# Altium footprint library MZ7XBFUN20171130.PcbLib: 37 footprints (part 2 of 3)
Each footprint in its own frame and in the unit in brackets; x right, y up, seen from the top. Pads: shape width x height; smd on the part's side, far side on the other; paste and mask are expansions set on the pad; w line width, h text height; cw(c..) or ccw(c..) is an arc to the next point about the centre after c.
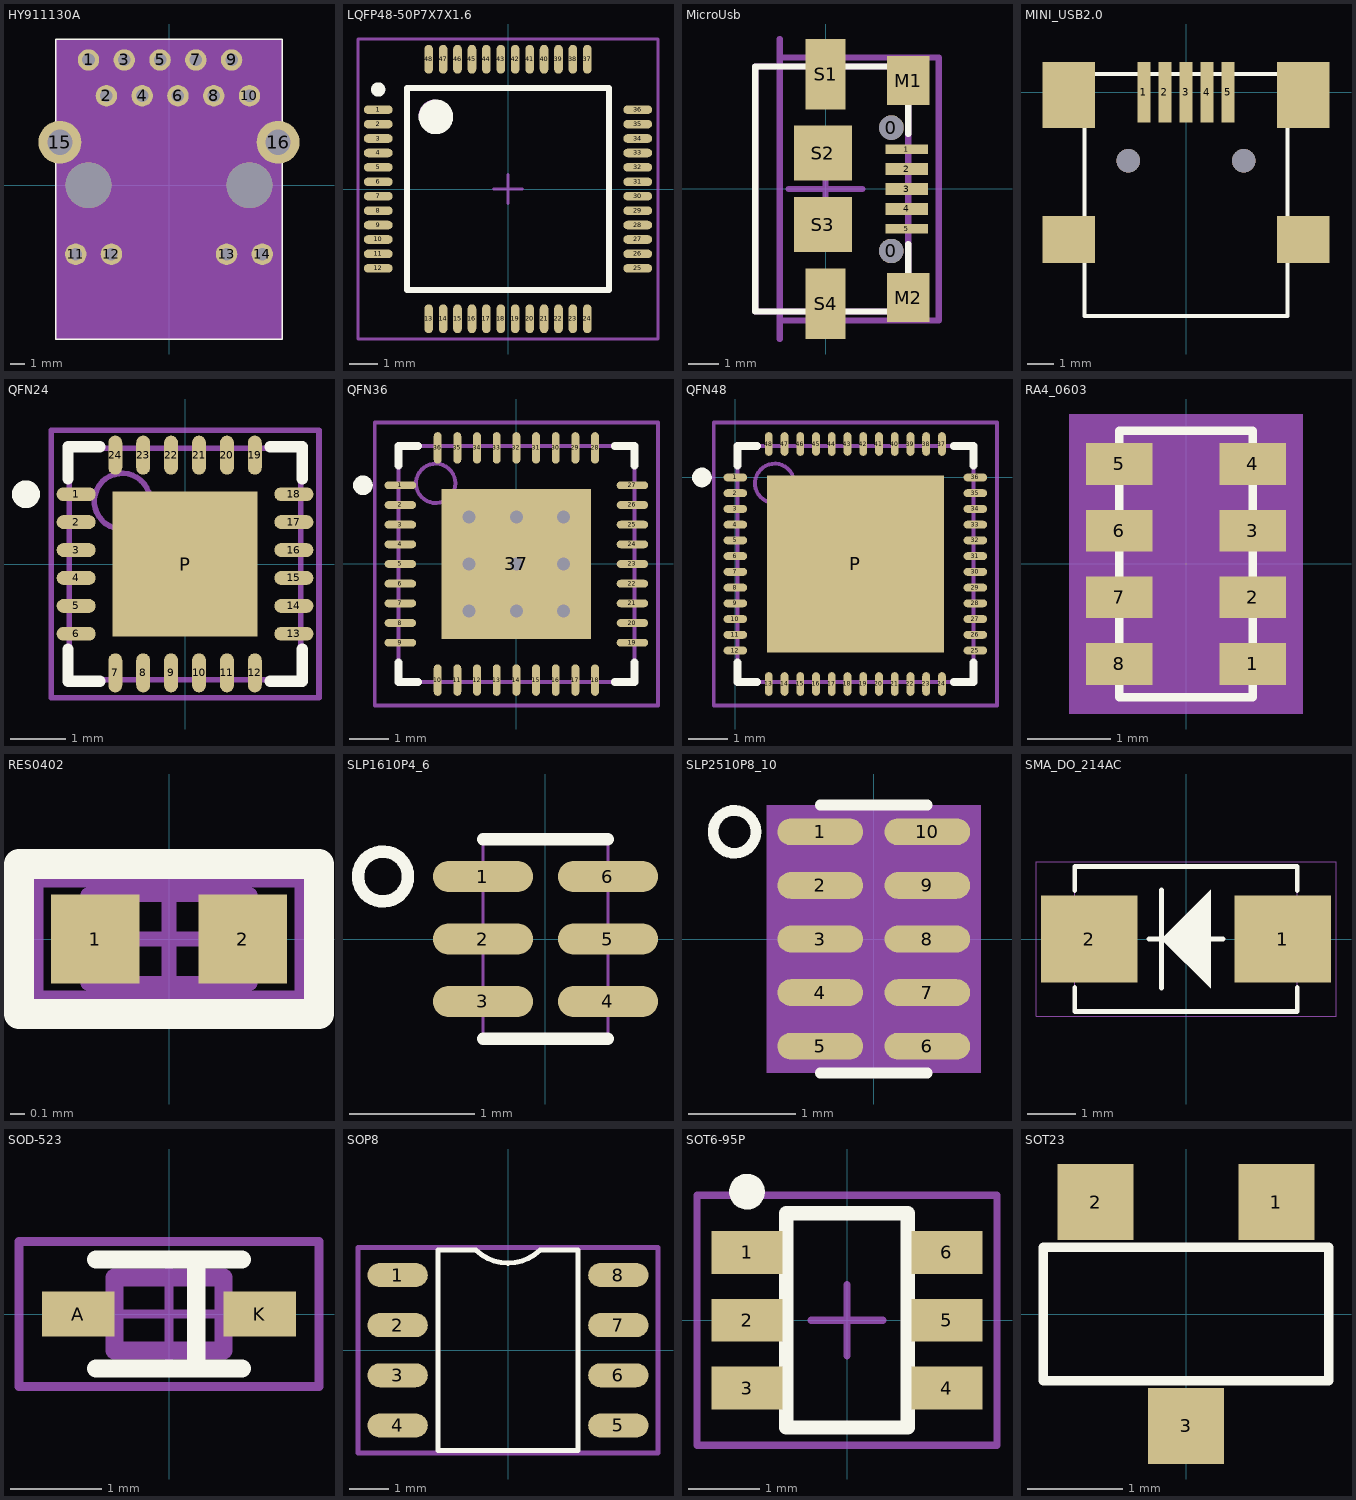
[diagram p1: the footprints below, top view; thin cyan lines are the x and y axes]

## HY911130A [mil]
pads (18):
  round 60 hole 35: 1(-225,350) 2(-175,250) 3(-125,350) 4(-75,250) 5(-25,350) 6(25,250) 7(75,350) 8(125,250) 9(175,350) 10(225,250) 11(-260.83,-192.91) 12(-160.83,-192.91) 13(160.83,-192.91) 14(260.83,-192.91)
  round 120 hole 70: 15(-304.92,120.08) 16(304.92,120.08)
  round 128 hole 128: " "(-225,0) " "(225,0)
Top Overlay:
  lines w3.94: -316.93,-429.92 -316.93,408.66 316.93,408.66 316.93,-429.92 -316.93,-429.92
Mechanical 6:
  text "11" at -260.83,-230.61 h30
  text "14" at 260.83,-230.61 h30
  text "1" at -225,324.9 h30
  text "15" at -304.92,82.38 h30
  text "12" at -160.83,-230.61 h30
  text "10" at 225,212.3 h30
  text "13" at 160.83,-230.61 h30
  text "16" at 304.92,82.38 h30
  text "2" at -175,224.9 h30
  text "3" at -125,324.9 h30
  text "4" at -75,224.9 h30
  text "7" at 75,324.9 h30
  text "5" at -25,324.9 h30
  text "6" at 25,224.9 h30
  text "8" at 125,224.9 h30
  text "9" at 175,324.9 h30
Mechanical 7:
  lines w1: -316.93,-429.92 -316.93,408.66 316.93,408.66 316.93,-429.92 -316.93,-429.92
Mechanical 8:
  region: -316.93,-429.92 316.93,-429.92 316.93,408.66 -316.93,408.66
  lines w3.94: -59.06,-59.06 0,0 ; 0,-192.91 0,0 ; 59.06,-59.06 0,0
3D body: height 150, standoff 0, extent -316.93,-429.92 316.93,408.66

## LQFP48-50P7X7X1.6 [mm]
pads (48):
  oval 1x0.3 smd: 1(-4.5,2.75) 2(-4.5,2.25) 3(-4.5,1.75) 4(-4.5,1.25) 5(-4.5,0.75) 6(-4.5,0.25) 7(-4.5,-0.25) 8(-4.5,-0.75) 9(-4.5,-1.25) 10(-4.5,-1.75) 11(-4.5,-2.25) 12(-4.5,-2.75) 25(4.5,-2.75) 26(4.5,-2.25) 27(4.5,-1.75) 28(4.5,-1.25) 29(4.5,-0.75) 30(4.5,-0.25) 31(4.5,0.25) 32(4.5,0.75) 33(4.5,1.25) 34(4.5,1.75) 35(4.5,2.25) 36(4.5,2.75)
  oval 0.3x1 smd: 13(-2.75,-4.5) 14(-2.25,-4.5) 15(-1.75,-4.5) 16(-1.25,-4.5) 17(-0.75,-4.5) 18(-0.25,-4.5) 19(0.25,-4.5) 20(0.75,-4.5) 21(1.25,-4.5) 22(1.75,-4.5) 23(2.25,-4.5) 24(2.75,-4.5) 37(2.75,4.5) 38(2.25,4.5) 39(1.75,4.5) 40(1.25,4.5) 41(0.75,4.5) 42(0.25,4.5) 43(-0.25,4.5) 44(-0.75,4.5) 45(-1.25,4.5) 46(-1.75,4.5) 47(-2.25,4.5) 48(-2.75,4.5)
Top Overlay:
  circle w0.6: c-2.5,2.5 r0.3
  circle w0.25: c-4.5,3.45 r0.125
  lines w0.2: -3.5,-3.5 3.5,-3.5 3.5,3.5 -3.5,3.5 -3.5,-3.5
Mechanical 13:
  circle w0.1: c-2.55,2.55 r0.5
  lines w0.1: -3.5,-3.5 3.5,-3.5 3.5,3.5 -3.5,3.5 -3.5,-3.5
Mechanical 15:
  lines w0.1: -0.5,0 0.5,0 ; 0,-0.5 0,0.5 ; -5.2,-5.2 5.2,-5.2 5.2,5.2 -5.2,5.2 -5.2,-5.2
3D body: height 1.6, standoff 0.1, extent -3.5,-3.5 3.5,3.5

## MicroUsb [mm]
pads (13):
  round 0.8 hole 0.8: 0(2.144,-2.032) 0(2.15,2)
  rect 1.4x0.305 smd: 1(2.647,1.293) 5(2.647,-1.307)
  rect 1.4x0.4 smd: 2(2.647,0.643) 3(2.647,-0.007) 4(2.647,-0.657)
  rect 1.4x1.6 smd: M1(2.697,3.531) M2(2.697,-3.556)
  rect 1.3x2.3 smd: S1(-0.003,3.743) S4(-0.003,-3.757)
  rect 1.9x1.8 smd: S2(-0.092,1.168) S3(-0.092,-1.168)
Top Overlay:
  lines w0.203: 2.697,-1.807 2.697,-4.007 -2.303,-4.007 -2.303,3.993 2.697,3.993 2.697,1.793
Mechanical 13:
  lines w0.203: -2.303,-4.007 -2.303,3.993 2.697,3.993 2.697,-4.007 -2.303,-4.007
Mechanical 15:
  lines w0.203: -1.503,-4.907 -1.503,-2.507 ; -1.503,2.493 -1.503,4.893 ; -1.203,-0.007 1.197,-0.007 ; -0.003,-1.207 -0.003,1.193 ; -1.503,-4.307 -1.503,4.293 3.697,4.293 3.697,-3.107 3.697,-4.307 -1.503,-4.307
3D body: height 2, standoff 0, extent -2.37,-3.743 2.63,4.257

## MINI_USB2.0 [mm]
pads (9):
  rect 0.5x2.3 smd: 1(-1.6,0) 2(-0.8,0) 3(0,0) 4(0.8,0) 5(1.6,0)
  rect 2x1.789 smd: ""(-4.45,-5.6) ""(4.45,-5.6)
  rect 2x2.5 smd: ""(-4.45,-0.1) ""(4.45,-0.1)
via -2.2,-2.6 diameter 0.9 hole 0.9
via 2.2,-2.6 diameter 0.9 hole 0.9
Top Overlay:
  lines w0.15: -3.85,-8.5 3.85,-8.5 3.85,0.7 -3.85,0.7 -3.85,-8.5

## QFN24 [mm]
pads (25):
  oval 0.7x0.25 smd: 1(-1.95,1.25) 2(-1.95,0.75) 3(-1.95,0.25) 4(-1.95,-0.25) 5(-1.95,-0.75) 6(-1.95,-1.25) 13(1.95,-1.25) 14(1.95,-0.75) 15(1.95,-0.25) 16(1.95,0.25) 17(1.95,0.75) 18(1.95,1.25)
  oval 0.25x0.7 smd: 7(-1.25,-1.95) 8(-0.75,-1.95) 9(-0.25,-1.95) 10(0.25,-1.95) 11(0.75,-1.95) 12(1.25,-1.95) 19(1.25,1.95) 20(0.75,1.95) 21(0.25,1.95) 22(-0.25,1.95) 23(-0.75,1.95) 24(-1.25,1.95)
  rect 2.6x2.6 smd: P(0,0)
Top Overlay:
  circle w0.25: c-2.85,1.25 r0.125
  lines w0.2: -2.1,-1.525 -2.1,-2.1 -1.525,-2.1 ; -2.1,1.525 -2.1,2.1 -1.525,2.1 ; 1.525,-2.1 2.1,-2.1 2.1,-1.525 ; 1.525,2.1 2.1,2.1 2.1,1.525
Mechanical 13:
  circle w0.1: c-1.125,1.125 r0.5
  lines w0.1: -2.075,-2.075 -2.075,2.075 2.075,2.075 2.075,-2.075 -2.075,-2.075
Mechanical 15:
  lines w0.1: -0.5,0 0.5,0 ; 0,-0.5 0,0.5 ; -2.4,-2.4 -2.4,2.4 2.4,2.4 2.4,-2.4 -2.4,-2.4
3D body: height 0.8, standoff 0.05, extent -2.075,-2.075 2.075,2.075

## QFN36 [mm]
pads (37):
  oval 0.8x0.2 smd: 1(-2.95,2) 2(-2.95,1.5) 3(-2.95,1) 4(-2.95,0.5) 5(-2.95,0) 6(-2.95,-0.5) 7(-2.95,-1) 8(-2.95,-1.5) 9(-2.95,-2) 19(2.95,-2) 20(2.95,-1.5) 21(2.95,-1) 22(2.95,-0.5) 23(2.95,0) 24(2.95,0.5) 25(2.95,1) 26(2.95,1.5) 27(2.95,2)
  oval 0.2x0.8 smd: 10(-2,-2.95) 11(-1.5,-2.95) 12(-1,-2.95) 13(-0.5,-2.95) 14(0,-2.95) 15(0.5,-2.95) 16(1,-2.95) 17(1.5,-2.95) 18(2,-2.95) 28(2,2.95) 29(1.5,2.95) 30(1,2.95) 31(0.5,2.95) 32(0,2.95) 33(-0.5,2.95) 34(-1,2.95) 35(-1.5,2.95) 36(-2,2.95)
  rect 3.8x3.8 smd: 37(0,0)
via -1.2,1.2 diameter 0.66 hole 0.33
via 0,1.2 diameter 0.66 hole 0.33
via 1.2,1.2 diameter 0.66 hole 0.33
via -1.2,0 diameter 0.66 hole 0.33
via 0,0 diameter 0.66 hole 0.33
via 1.2,0 diameter 0.66 hole 0.33
via -1.2,-1.2 diameter 0.66 hole 0.33
via 0,-1.2 diameter 0.66 hole 0.33
via 1.2,-1.2 diameter 0.66 hole 0.33
Top Overlay:
  circle w0.25: c-3.9,2 r0.125
  lines w0.2: -3,-2.5 -3,-3 -2.5,-3 ; -3,2.5 -3,3 -2.5,3 ; 2.5,-3 3,-3 3,-2.5 ; 2.5,3 3,3 3,2.5
Mechanical 13:
  circle w0.1: c-2.05,2.05 r0.5
  lines w0.1: -3,-3 -3,3 3,3 3,-3 -3,-3
Mechanical 15:
  lines w0.1: -0.5,0 0.5,0 ; 0,-0.5 0,0.5 ; -3.6,-3.6 -3.6,3.6 3.6,3.6 3.6,-3.6 -3.6,-3.6
3D body: height 0.8, standoff 0.01, extent -3,-3 3,3

## QFN48 [mm]
pads (49):
  oval 0.6x0.2 smd: 1(0,0) 2(0,-0.4) 3(0,-0.8) 4(0,-1.2) 5(0,-1.6) 6(0,-2) 7(0,-2.4) 8(0,-2.8) 9(0,-3.2) 10(0,-3.6) 11(0,-4) 12(0,-4.4) 25(6.1,-4.4) 26(6.1,-4) 27(6.1,-3.6) 28(6.1,-3.2) 29(6.1,-2.8) 30(6.1,-2.4) 31(6.1,-2) 32(6.1,-1.6) 33(6.1,-1.2) 34(6.1,-0.8) 35(6.1,-0.4) 36(6.1,0)
  oval 0.2x0.6 smd: 13(0.85,-5.25) 14(1.25,-5.25) 15(1.65,-5.25) 16(2.05,-5.25) 17(2.45,-5.25) 18(2.85,-5.25) 19(3.25,-5.25) 20(3.65,-5.25) 21(4.05,-5.25) 22(4.45,-5.25) 23(4.85,-5.25) 24(5.25,-5.25) 37(5.25,0.85) 38(4.85,0.85) 39(4.45,0.85) 40(4.05,0.85) 41(3.65,0.85) 42(3.25,0.85) 43(2.85,0.85) 44(2.45,0.85) 45(2.05,0.85) 46(1.65,0.85) 47(1.25,0.85) 48(0.85,0.85)
  rect 4.5x4.5 smd: P(3.05,-2.2)
Top Overlay:
  circle w0.25: c-0.85,0 r0.125
  lines w0.2: 0.05,-4.7 0.05,-5.2 0.55,-5.2 ; 0.05,0.3 0.05,0.8 0.55,0.8 ; 5.55,-5.2 6.05,-5.2 6.05,-4.7 ; 5.55,0.8 6.05,0.8 6.05,0.3
Mechanical 13:
  circle w0.1: c1,-0.15 r0.5
  lines w0.1: 0.05,-5.2 6.05,-5.2 6.05,0.8 0.05,0.8 0.05,-5.2
Mechanical 15:
  lines w0.1: 2.55,-2.2 3.55,-2.2 ; 3.05,-2.7 3.05,-1.7 ; -0.55,-5.8 6.65,-5.8 6.65,1.4 -0.55,1.4 -0.55,-5.8
3D body: height 0.8, standoff 0.01, extent 0.05,-5.2 6.05,0.8

## RA4_0603 [mm]
pads (8):
  rect 0.8x0.5 smd: 1(0.8,-1.2) 2(0.8,-0.4) 3(0.8,0.4) 4(0.8,1.2) 5(-0.8,1.2) 6(-0.8,0.4) 7(-0.8,-0.4) 8(-0.8,-1.2)
Top Overlay:
  lines w0.1: -0.8,-1.6 0.8,-1.6 0.8,1.6 -0.8,1.6 -0.8,-1.6
Mechanical 9:
  region: 1.4,1.8 1.4,-1.8 -1.4,-1.8 -1.4,1.8
Mechanical 10:
  pour cut-out: 1.4,-1.8 1.1,-1.8 1.4,-1.5
  lines w0.025: -0.8,-1.6 -0.8,1.6 0.8,1.6 0.8,-1.6 -0.8,-1.6
3D body: height 3.81, standoff 0, extent -1.4,-1.8 1.4,1.8

## RES0402 [mm]
pads (2):
  rect 0.6x0.6 smd: 1(-0.5,0) 2(0.5,0)
Top Overlay:
  lines w0.2: -1.016,-0.508 -1.016,0.508 1.016,0.508 1.016,-0.508 -1.016,-0.508
Mechanical 13:
  lines w0.1: -0.55,-0.3 0.55,-0.3 0.55,0.3 -0.55,0.3 -0.55,-0.3
Mechanical 15:
  lines w0.1: -0.3,0 0.3,0 ; 0,-0.3 0,0.3 ; -0.9,-0.4 -0.9,0.4 0.9,0.4 0.9,-0.4 -0.9,-0.4
3D body: height 0.6, standoff 0, extent -0.55,-0.3 0.55,0.3

## SLP1610P4_6 [mm]
pads (6):
  oval 0.8x0.25 smd: 1(-0.5,0.5) 2(-0.5,0) 3(-0.5,-0.5) 4(0.5,-0.5) 5(0.5,0) 6(0.5,0.5)
Top Overlay:
  circle w0.1: c-1.3,0.5 r0.2
  lines w0.1: -0.5,-0.8 0.5,-0.8 ; -0.5,0.8 0.5,0.8
Mechanical 6:
  text "1" at -0.5,-0.07 h0.76
Mechanical 7:
  lines w0.025: -0.5,-0.8 -0.5,0.8 0.5,0.8 0.5,-0.8 -0.5,-0.8
3D body: height 3.81, standoff 0, extent -1,-0.8 1,0.8

## SLP2510P8_10 [mm]
pads (10):
  oval 0.8x0.25 smd: 1(-0.5,1) 2(-0.5,0.5) 3(-0.5,0) 4(-0.5,-0.5) 5(-0.5,-1) 6(0.5,-1) 7(0.5,-0.5) 8(0.5,0) 9(0.5,0.5) 10(0.5,1)
Top Overlay:
  circle w0.1: c-1.3,1 r0.2
  lines w0.1: -0.5,-1.25 0.5,-1.25 ; -0.5,1.25 0.5,1.25
Mechanical 6:
  text "3" at -0.5,0.07 h0.76
  text "6" at 0.5,-0.93 h0.76
  text "5" at -0.5,-0.93 h0.76
  text "4" at -0.5,-0.43 h0.76
Mechanical 7:
  lines w0.025: -0.5,-1.25 0.5,-1.25 0.5,1.25 -0.5,1.25 -0.5,-1.25
Mechanical 8:
  region: -1,-1.25 1,-1.25 1,1.25 -1,1.25
3D body: height 3.81, standoff 0, extent -1,-1.25 1,1.25

## SMA_DO_214AC [mm]
pads (2):
  rect 2x1.8 smd: 1(2,0) 2(-2,0)
Top Overlay:
  pour cut-out: 0.508,-1.016 0.508,1.016 -0.508,0
  lines w0.1: -2.3,-1 -2.3,-1.5 2.3,-1.5 2.3,-1 ; -2.3,1 -2.3,1.5 2.3,1.5 2.3,1 ; -0.762,0 0.762,0 ; -0.508,-1.016 -0.508,1.016
Mechanical 6:
  text "2" at -2,0.45 h0.76
  text "1" at 2,0.45 h0.76
Mechanical 9:
  lines w0.025: -3.1,-1.6 3.1,-1.6 3.1,1.6 -3.1,1.6 -3.1,-1.6
Mechanical 10:
  lines w0.025: -2.3,-1.5 2.3,-1.5 2.3,1.5 -2.3,1.5 -2.3,-1.5

## SOD-523 [mm]
pads (2):
  rect 0.8x0.5 smd: A(-1,0) K(1,0)
Top Overlay:
  lines w0.2: -0.8,-0.6 0.8,-0.6 ; -0.8,0.6 0.8,0.6 ; 0.3,-0.6 0.3,0.6
Mechanical 13:
  lines w0.2: -0.6,-0.4 0.6,-0.4 0.6,0.4 -0.6,0.4 -0.6,-0.4
Mechanical 15:
  lines w0.1: -0.5,0 0.5,0 ; 0,-0.6 0,0.6 ; -1.651,-0.8 1.651,-0.8 1.651,0.8 -1.651,0.8 -1.651,-0.8
3D body: height 2, standoff 0, extent -0.6,-0.4 0.6,0.4

## SOP8 [mil]
pads (8):
  oval 60x24 smd: 1(-110,75) 2(-110,25) 3(-110,-25) 4(-110,-75) 5(110,-75) 6(110,-25) 7(110,25) 8(110,75)
Top Overlay:
  lines w5: -70,-100 70,-100 70,100 32,100 cw(c0,132) -32,100 -70,100 -70,-100
Mechanical 15:
  lines w5: -149.61,-102.36 149.61,-102.36 149.61,102.36 -149.61,102.36 -149.61,-102.36

## SOT6-95P [mm]
pads (6):
  rect 1x0.6 smd: 1(-1.4,0.95) 2(-1.4,0) 3(-1.4,-0.95) 4(1.4,-0.95) 5(1.4,0) 6(1.4,0.95)
Top Overlay:
  circle w0.25: c-1.4,1.8 r0.125
  lines w0.2: -0.85,-1.5 0.85,-1.5 0.85,1.5 -0.85,1.5 -0.85,-1.5
Mechanical 13:
  lines w0.1: -0.85,-1.5 -0.85,1.5 0.85,1.5 0.85,-1.5 -0.85,-1.5
Mechanical 15:
  lines w0.1: -0.5,0 0.5,0 ; 0,-0.5 0,0.5 ; -2.1,-1.75 -2.1,1.75 2.1,1.75 2.1,-1.75 -2.1,-1.75
3D body: height 1.3, standoff 0.05, extent -0.85,-1.5 0.85,1.5

## SOT23 [mm]
pads (3):
  rect 0.8x0.8 smd: 1(0.95,1.175) 2(-0.95,1.175) 3(0,-1.175)
Top Overlay:
  lines w0.1: -1.5,-0.7 1.5,-0.7 1.5,0.7 -1.5,0.7 -1.5,-0.7
Mechanical 10:
  lines w0.025: -1.5,-0.7 -1.5,0.7 1.5,0.7 1.5,-0.7 -1.5,-0.7
3D body: height 3.81, standoff 0, extent -1.7,-1.775 1.7,1.775